# EAGLE library part STM32F091RBT6 (library Hexabitz)
MCU 32-bit ARM Cortex M0 RISC 128KB Flash 2.5V/3.3V 64-Pin LQFP Frame
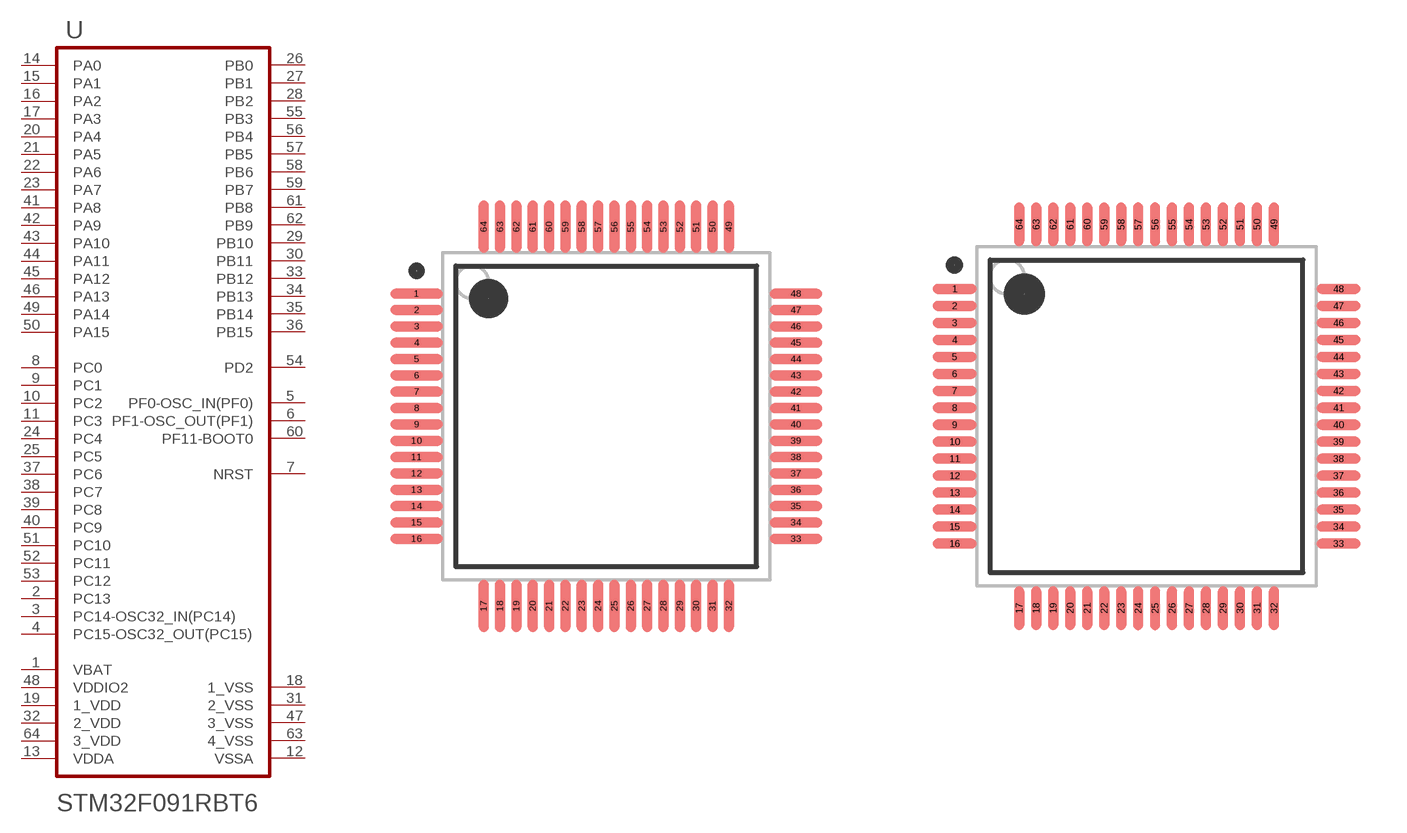
[diagram p19: symbol with the pads of STMICROELECTRONICS_STM32F091RBT6_0; footprints STMICROELECTRONICS_STM32F091RBT6_0, STMICROELECTRONICS_STM32F091RBT6_1]

Designator prefix U

## STM32F091RBT6STMICROELECTRONICS_STM32F091RBT6_0_0 (CIIVA_IDS: 20240711; COMPONENT_LINK_1_DESCRIPTION: Manufacturer URL; COMPONENT_LINK_1_URL: http://www.st.com/; CORE: ARM Cortex-M0; DATASHEET: http://www.st.com/st-web-ui/static/active/en/resource/technical/document/datasheet/DM00115237.pdf; DATASHEET_VERSION: Rev. 2; DA_CONVERTER: 1; FLASH_SIZE_PROG_KB: 128; FOOTPRINT_VARIANT_NAME_0: Level C; FOOTPRINT_VARIANT_NAME_1: Level B; FOOTPRINT_VARIANT_NAME_2: Level A; IMPORTED: yes; IMPORTED_FROM: vault; IMPORT_TS: 1521852803; INTERNAL_RAM_SIZE_KB: 32; IOS_HIGH_CURRENT: 52; MFN: STMicroelectronics; MOUNTING_TECHNOLOGY: Surface Mount; MPN: STM32F091RBT6; OCTOPART_URL: https://octopart.com/stm32f091rbt6-stmicroelectronics-51988681?r=sp&s=BdwllF-IRiCzY1PfRtR3oA#; OPERATING_FREQUENCYF_PROCESSOR_SPEED_MHZ: 48; PACKAGE_DESCRIPTION: 64-Pin Low-profile Quad Flat Package, Body 10 x 10 mm, Pitch 0.5 mm; PACKAGE_REFERENCE: LQFP64; PACKING: Tray; PREFIX: U; RELEASE_DATE: 1490161467; SUPPLY_VOLTAGEVCC_MIN_V: 2; VAULT_GUID: 95B06E5F-7F06-470A-8EBC-FD74529BF319; VAULT_REVISION: C6B60D25-65BF-47EB-8D85-05054791449B)  [STMICROELECTRONICS_STM32F091RBT6_0]
1  VBAT  pwr
2  PC13
3  PC14-OSC32_IN(PC14)
4  PC15-OSC32_OUT(PC15)
5  PF0-OSC_IN(PF0)
6  PF1-OSC_OUT(PF1)
7  NRST
8  PC0
9  PC1
10  PC2
11  PC3
12  VSSA  pwr
13  VDDA  pwr
14  PA0
15  PA1
16  PA2
17  PA3
18  1_VSS  pwr
19  1_VDD  pwr
20  PA4
21  PA5
22  PA6
23  PA7
24  PC4
25  PC5
26  PB0
27  PB1
28  PB2
29  PB10
30  PB11
31  2_VSS  pwr
32  2_VDD  pwr
33  PB12
34  PB13
35  PB14
36  PB15
37  PC6
38  PC7
39  PC8
40  PC9
41  PA8
42  PA9
43  PA10
44  PA11
45  PA12
46  PA13
47  3_VSS  pwr
48  VDDIO2  pwr
49  PA14
50  PA15
51  PC10
52  PC11
53  PC12
54  PD2
55  PB3
56  PB4
57  PB5
58  PB6
59  PB7
60  PF11-BOOT0
61  PB8
62  PB9
63  4_VSS  pwr
64  3_VDD  pwr

## STM32F091RBT6STMICROELECTRONICS_STM32F091RBT6_0_1 (CIIVA_IDS: 20240711; COMPONENT_LINK_1_DESCRIPTION: Manufacturer URL; COMPONENT_LINK_1_URL: http://www.st.com/; CORE: ARM Cortex-M0; DATASHEET: http://www.st.com/st-web-ui/static/active/en/resource/technical/document/datasheet/DM00115237.pdf; DATASHEET_VERSION: Rev. 2; DA_CONVERTER: 1; FLASH_SIZE_PROG_KB: 128; FOOTPRINT_VARIANT_NAME_0: Level C; FOOTPRINT_VARIANT_NAME_1: Level B; FOOTPRINT_VARIANT_NAME_2: Level A; IMPORTED: yes; IMPORTED_FROM: vault; IMPORT_TS: 1521852803; INTERNAL_RAM_SIZE_KB: 32; IOS_HIGH_CURRENT: 52; MF: STMicroelectronics; MOUNTING_TECHNOLOGY: Surface Mount; MPN: STM32F091RBT6; OPERATING_FREQUENCYF_PROCESSOR_SPEED_MHZ: 48; PACKAGE_DESCRIPTION: 64-Pin Low-profile Quad Flat Package, Body 10 x 10 mm, Pitch 0.5 mm; PACKAGE_REFERENCE: LQFP64; PACKING: Tray; PREFIX: U; RELEASE_DATE: 1490161467; SUPPLY_VOLTAGEVCC_MIN_V: 2; VAULT_GUID: 95B06E5F-7F06-470A-8EBC-FD74529BF319; VAULT_REVISION: C6B60D25-65BF-47EB-8D85-05054791449B)  [STMICROELECTRONICS_STM32F091RBT6_1]
Pads as for STMICROELECTRONICS_STM32F091RBT6_0

## STM32F091RBT6STMICROELECTRONICS_STM32F091RBT6_0_2 (CIIVA_IDS: 20240711; COMPONENT_LINK_1_DESCRIPTION: Manufacturer URL; COMPONENT_LINK_1_URL: http://www.st.com/; CORE: ARM Cortex-M0; DATASHEET: http://www.st.com/st-web-ui/static/active/en/resource/technical/document/datasheet/DM00115237.pdf; DATASHEET_VERSION: Rev. 2; DA_CONVERTER: 1; FLASH_SIZE_PROG_KB: 128; FOOTPRINT_VARIANT_NAME_0: Level C; FOOTPRINT_VARIANT_NAME_1: Level B; FOOTPRINT_VARIANT_NAME_2: Level A; IMPORTED: yes; IMPORTED_FROM: vault; IMPORT_TS: 1521852803; INTERNAL_RAM_SIZE_KB: 32; IOS_HIGH_CURRENT: 52; MF: STMicroelectronics; MOUNTING_TECHNOLOGY: Surface Mount; MPN: STM32F091RBT6; OPERATING_FREQUENCYF_PROCESSOR_SPEED_MHZ: 48; PACKAGE_DESCRIPTION: 64-Pin Low-profile Quad Flat Package, Body 10 x 10 mm, Pitch 0.5 mm; PACKAGE_REFERENCE: LQFP64; PACKING: Tray; PREFIX: U; RELEASE_DATE: 1490161467; SUPPLY_VOLTAGEVCC_MIN_V: 2; VAULT_GUID: 95B06E5F-7F06-470A-8EBC-FD74529BF319; VAULT_REVISION: C6B60D25-65BF-47EB-8D85-05054791449B)  [STMICROELECTRONICS_STM32F091RBT6_2]
Pads as for STMICROELECTRONICS_STM32F091RBT6_0

## Footprint STMICROELECTRONICS_STM32F091RBT6_0 (pad centres in mm)
MC-ARM-STM32F091-LQFP64
smd 1.6 x 0.3: 1 -5.8,3.75; 2 -5.8,3.25; 3 -5.8,2.75; 4 -5.8,2.25; 5 -5.8,1.75; 6 -5.8,1.25; 7 -5.8,0.75; 8 -5.8,0.25; 9 -5.8,-0.25; 10 -5.8,-0.75; 11 -5.8,-1.25; 12 -5.8,-1.75; 13 -5.8,-2.25; 14 -5.8,-2.75; 15 -5.8,-3.25; 16 -5.8,-3.75; 33 5.8,-3.75; 34 5.8,-3.25; 35 5.8,-2.75; 36 5.8,-2.25; 37 5.8,-1.75; 38 5.8,-1.25; 39 5.8,-0.75; 40 5.8,-0.25; 41 5.8,0.25; 42 5.8,0.75; 43 5.8,1.25; 44 5.8,1.75; 45 5.8,2.25; 46 5.8,2.75; 47 5.8,3.25; 48 5.8,3.75
smd 0.3 x 1.6: 17 -3.75,-5.8; 18 -3.25,-5.8; 19 -2.75,-5.8; 20 -2.25,-5.8; 21 -1.75,-5.8; 22 -1.25,-5.8; 23 -0.75,-5.8; 24 -0.25,-5.8; 25 0.25,-5.8; 26 0.75,-5.8; 27 1.25,-5.8; 28 1.75,-5.8; 29 2.25,-5.8; 30 2.75,-5.8; 31 3.25,-5.8; 32 3.75,-5.8; 49 3.75,5.8; 50 3.25,5.8; 51 2.75,5.8; 52 2.25,5.8; 53 1.75,5.8; 54 1.25,5.8; 55 0.75,5.8; 56 0.25,5.8; 57 -0.25,5.8; 58 -0.75,5.8; 59 -1.25,5.8; 60 -1.75,5.8; 61 -2.25,5.8; 62 -2.75,5.8; 63 -3.25,5.8; 64 -3.75,5.8

## Footprint STMICROELECTRONICS_STM32F091RBT6_1 (pad centres in mm)
MC-ARM-STM32F091-LQFP64
smd 1.3 x 0.3: 1 -5.65,3.75; 2 -5.65,3.25; 3 -5.65,2.75; 4 -5.65,2.25; 5 -5.65,1.75; 6 -5.65,1.25; 7 -5.65,0.75; 8 -5.65,0.25; 9 -5.65,-0.25; 10 -5.65,-0.75; 11 -5.65,-1.25; 12 -5.65,-1.75; 13 -5.65,-2.25; 14 -5.65,-2.75; 15 -5.65,-3.25; 16 -5.65,-3.75; 33 5.65,-3.75; 34 5.65,-3.25; 35 5.65,-2.75; 36 5.65,-2.25; 37 5.65,-1.75; 38 5.65,-1.25; 39 5.65,-0.75; 40 5.65,-0.25; 41 5.65,0.25; 42 5.65,0.75; 43 5.65,1.25; 44 5.65,1.75; 45 5.65,2.25; 46 5.65,2.75; 47 5.65,3.25; 48 5.65,3.75
smd 0.3 x 1.3: 17 -3.75,-5.65; 18 -3.25,-5.65; 19 -2.75,-5.65; 20 -2.25,-5.65; 21 -1.75,-5.65; 22 -1.25,-5.65; 23 -0.75,-5.65; 24 -0.25,-5.65; 25 0.25,-5.65; 26 0.75,-5.65; 27 1.25,-5.65; 28 1.75,-5.65; 29 2.25,-5.65; 30 2.75,-5.65; 31 3.25,-5.65; 32 3.75,-5.65; 49 3.75,5.65; 50 3.25,5.65; 51 2.75,5.65; 52 2.25,5.65; 53 1.75,5.65; 54 1.25,5.65; 55 0.75,5.65; 56 0.25,5.65; 57 -0.25,5.65; 58 -0.75,5.65; 59 -1.25,5.65; 60 -1.75,5.65; 61 -2.25,5.65; 62 -2.75,5.65; 63 -3.25,5.65; 64 -3.75,5.65

## Footprint STMICROELECTRONICS_STM32F091RBT6_2 (pad centres in mm)
MC-ARM-STM32F091-LQFP64
smd 1.4 x 0.3: 1 -5.7,3.75; 2 -5.7,3.25; 3 -5.7,2.75; 4 -5.7,2.25; 5 -5.7,1.75; 6 -5.7,1.25; 7 -5.7,0.75; 8 -5.7,0.25; 9 -5.7,-0.25; 10 -5.7,-0.75; 11 -5.7,-1.25; 12 -5.7,-1.75; 13 -5.7,-2.25; 14 -5.7,-2.75; 15 -5.7,-3.25; 16 -5.7,-3.75; 33 5.7,-3.75; 34 5.7,-3.25; 35 5.7,-2.75; 36 5.7,-2.25; 37 5.7,-1.75; 38 5.7,-1.25; 39 5.7,-0.75; 40 5.7,-0.25; 41 5.7,0.25; 42 5.7,0.75; 43 5.7,1.25; 44 5.7,1.75; 45 5.7,2.25; 46 5.7,2.75; 47 5.7,3.25; 48 5.7,3.75
smd 0.3 x 1.4: 17 -3.75,-5.7; 18 -3.25,-5.7; 19 -2.75,-5.7; 20 -2.25,-5.7; 21 -1.75,-5.7; 22 -1.25,-5.7; 23 -0.75,-5.7; 24 -0.25,-5.7; 25 0.25,-5.7; 26 0.75,-5.7; 27 1.25,-5.7; 28 1.75,-5.7; 29 2.25,-5.7; 30 2.75,-5.7; 31 3.25,-5.7; 32 3.75,-5.7; 49 3.75,5.7; 50 3.25,5.7; 51 2.75,5.7; 52 2.25,5.7; 53 1.75,5.7; 54 1.25,5.7; 55 0.75,5.7; 56 0.25,5.7; 57 -0.25,5.7; 58 -0.75,5.7; 59 -1.25,5.7; 60 -1.75,5.7; 61 -2.25,5.7; 62 -2.75,5.7; 63 -3.25,5.7; 64 -3.75,5.7